# EAGLE library part FPC/FFC-32-0.5 (library Bits_library_eagle)
0.5mm Pitch Connectors For FPC/FFC Source: Data sheet <http://www.hirose.co.jp/cataloge_hp/e58605370.pdf>
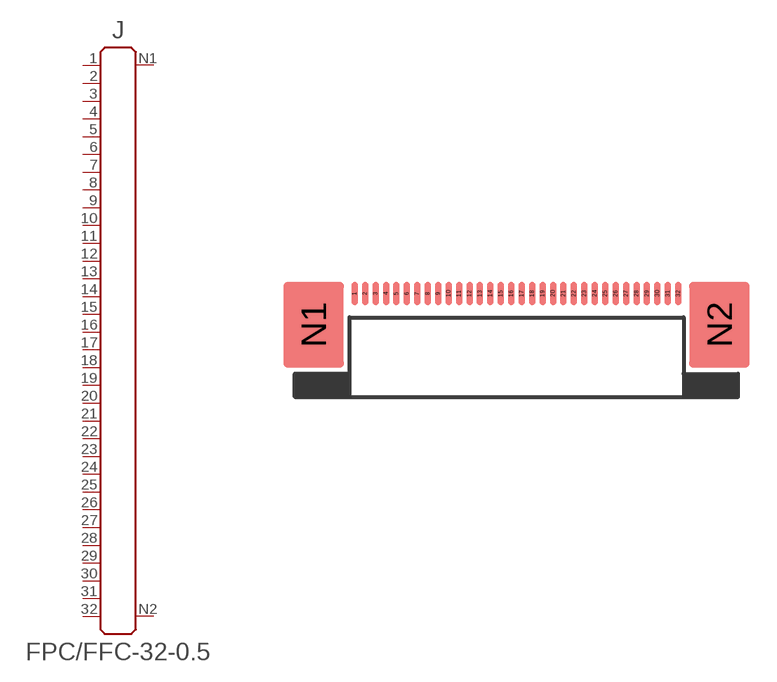
[diagram p27: symbol with the pads of FH12-32S-0.5SH; footprint FH12-32S-0.5SH]

Designator prefix J

## FPC/FFC-32-0.5H (OC_FARNELL: unknown; OC_NEWARK: unknown)  [FH12-32S-0.5SH]
1  P$1
2  P$2
3  P$3
4  P$4
5  P$5
6  P$6
7  P$7
8  P$8
9  P$9
10  P$10
11  P$11
12  P$12
13  P$13
14  P$14
15  P$15
16  P$16
17  P$17
18  P$18
19  P$19
20  P$20
21  P$21
22  P$22
23  P$23
24  P$24
25  P$25
26  P$26
27  P$27
28  P$28
29  P$29
30  P$30
31  P$31
32  P$32
N1  N$1
N2  N$2

## Footprint FH12-32S-0.5SH (pad centres in mm)
0.5mm Pitch Connectors For FPC/FFC Source: Data sheet <http://www.hirose.co.jp/cataloge_hp/e58605370.pdf>
smd 0.3 x 1.1: 1 -7.75,0.85; 2 -7.25,0.85; 3 -6.75,0.85; 4 -6.25,0.85; 5 -5.75,0.85; 6 -5.25,0.85; 7 -4.75,0.85; 8 -4.25,0.85; 9 -3.75,0.85; 10 -3.25,0.85; 11 -2.75,0.85; 12 -2.25,0.85; 13 -1.75,0.85; 14 -1.25,0.85; 15 -0.75,0.85; 16 -0.25,0.85; 17 0.25,0.85; 18 0.75,0.85; 19 1.25,0.85; 20 1.75,0.85; 21 2.25,0.85; 22 2.75,0.85; 23 3.25,0.85; 24 3.75,0.85; 25 4.25,0.85; 26 4.75,0.85; 27 5.25,0.85; 28 5.75,0.85; 29 6.25,0.85; 30 6.75,0.85; 31 7.25,0.85; 32 7.75,0.85
smd 2.9 x 4.1: N1 -9.72,-0.65; N2 9.72,-0.65